# Altium schematic symbol library SSCI.SchLib: 7 symbols
Pins are listed as number, name and electrical type; pins without a type are passive.

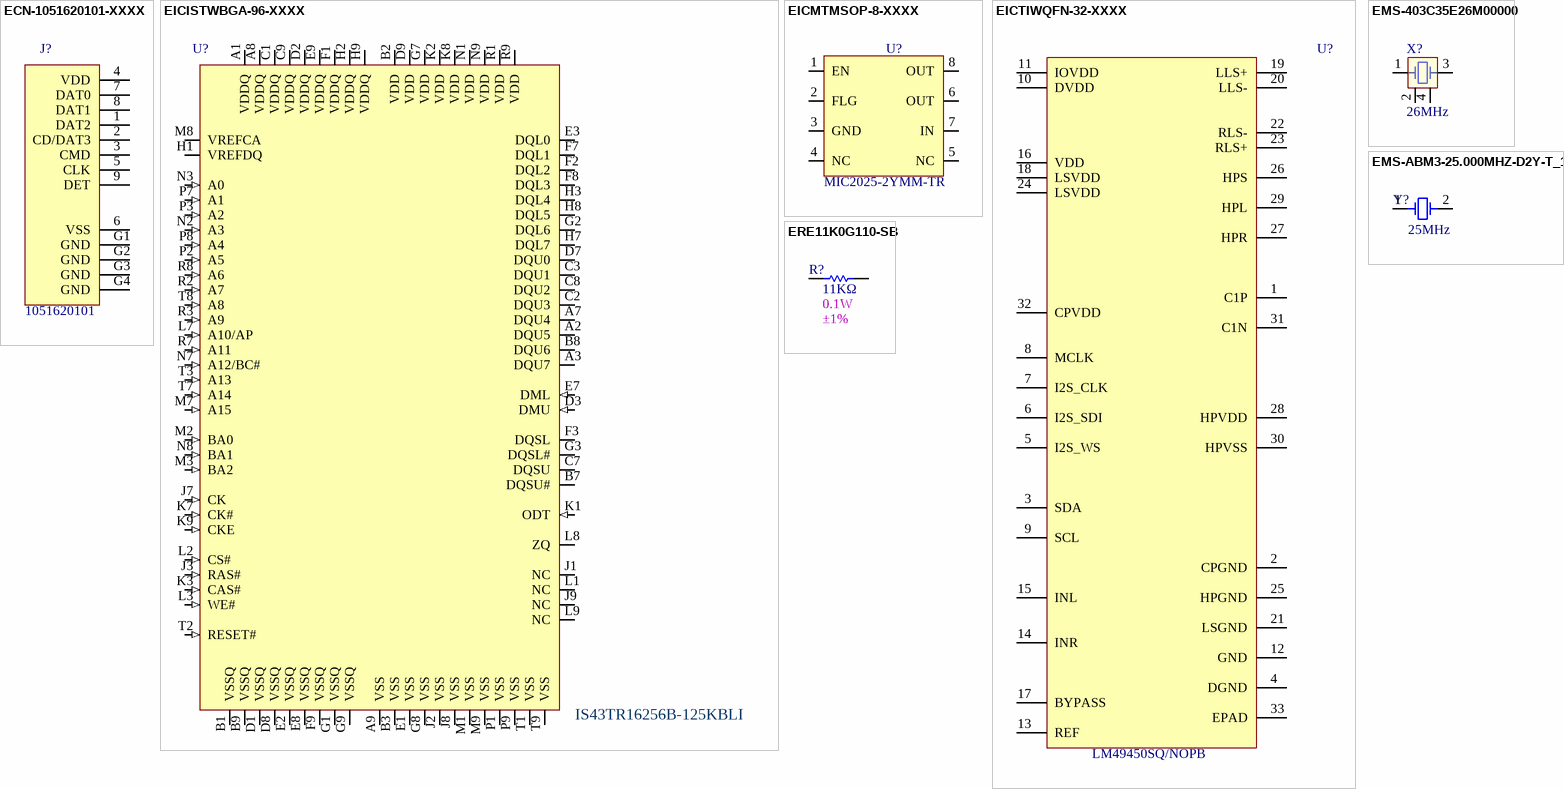
[diagram p0: symbols ECN-1051620101-XXXX to ERE11K0G110-SB]

## ECN-1051620101-XXXX
designator J?, comment value 1051620101  (hidden comment: 1.45H MICRO SD HEADER WITH D/C P)
Manufacturer: Molex; Internal Part Number: ECN-1051620101-XXXX; Vendor Part Number: WM12823CT-ND; 3rd Auxiliary Field: ROHS3 Compliant; Component Height (mm): 1.45mm; 4th Auxiliary Field: Push In, Pull Out; Vendor Name: Digi-Key; 1st Auxiliary Field: microSD™; 2nd Auxiliary Field: 9 (8 + 1) Positions; Part Type: 1.45H MICRO SD HEADER WITH D/C P; Manufacturer Part Number: 1051620101; Temp Co: *
footprint MOLEX_1051620101 (1.45H MICRO SD HEADER WITH D/C P)
pins: 1 DAT2, 2 CD/DAT3, 3 CMD, 4 VDD, 5 CLK, 6 VSS, 7 DAT0, 8 DAT1, 9 DET, G1 GND, G2 GND, G3 GND, G4 GND
1 alternate drawing of the same symbol

## EICISTWBGA-96-XXXX
designator U?, comment value IS43TR16256B-125KBLI  (hidden comment: IC DRAM 4GB DDR3 96TWBGA)
Internal Part Number: EICISTWBGA-96-XXXX; Manufacturer: ISSI, Integrated Silicon Solution Inc; Vendor Part Number: 706-1728-ND; 1st Auxiliary Field: 1.425V ~ 1.575V; 2nd Auxiliary Field: 4Gb (256M x 16); 3rd Auxiliary Field: ROHS3 Compliant; 4th Auxiliary Field: 800MHz; Component Height (mm): 1.2mm; Temp Co: -40°C ~ 95°C (TC); Vendor Name: Digi-Key; Part Type: IC DRAM 4GB DDR3 96TWBGA; Manufacturer Part Number: IS43TR16256B-125KBLI
footprint BGA96C80P9X16_900X1300X120 (BGA, 96-Leads, Body 9.00x13.00mmx1.20mm, Pitch 0.80mm)
pins: A1 VDDQ (power), A2 DQU5 (io), A3 DQU7 (io), A7 DQU4 (io), A8 VDDQ (power), A9 VSS (power), B1 VSSQ (power), B2 VDD (power), B3 VSS (power), B7 DQSU# (io), B8 DQU6 (io), B9 VSSQ (power), C1 VDDQ (power), C2 DQU3 (io), C3 DQU1 (io), C7 DQSU (io), C8 DQU2 (io), C9 VDDQ (power), D1 VSSQ (power), D2 VDDQ (power), D3 DMU (in), D7 DQU0 (io), D8 VSSQ (power), D9 VDD (power), E1 VSS (power), E2 VSSQ (power), E3 DQL0 (io), E7 DML (in), E8 VSSQ (power), E9 VDDQ (power), F1 VDDQ (power), F2 DQL2 (io), F3 DQSL (io), F7 DQL1 (io), F8 DQL3 (io), F9 VSSQ (power), G1 VSSQ (power), G2 DQL6 (io), G3 DQSL# (io), G7 VDD (power), G8 VSS (power), G9 VSSQ (power), H1 VREFDQ (power), H2 VDDQ (power), H3 DQL4 (io), H7 DQL7 (io), H8 DQL5 (io), H9 VDDQ (power), J1 NC, J2 VSS (power), J3 RAS# (in), J7 CK (in), J8 VSS (power), J9 NC, K1 ODT (in), K2 VDD (power), K3 CAS# (in), K7 CK# (in), K8 VDD (power), K9 CKE (in), L1 NC, L2 CS# (in), L3 WE# (in), L7 A10/AP (in), L8 ZQ (power), L9 NC, M1 VSS (power), M2 BA0 (in), M3 BA2 (in), M7 A15 (in), M8 VREFCA (power), M9 VSS (power), N1 VDD (power), N2 A3 (in), N3 A0 (in), N7 A12/BC# (in), N8 BA1 (in), N9 VDD (power), P1 VSS (power), P2 A5 (in), P3 A2 (in), P7 A1 (in), P8 A4 (in), P9 VSS (power), R1 VDD (power), R2 A7 (in), R3 A9 (in), R7 A11 (in), R8 A6 (in), R9 VDD (power), T1 VSS (power), T2 RESET# (in), T3 A13 (in), T7 A14 (in), T8 A8 (in), T9 VSS (power)

## EICMTMSOP-8-XXXX
designator U?, comment value MIC2025-2YMM-TR  (hidden comment: IC PWR SWITCH N-CHAN 1:1 8MSOP)
Manufacturer: Microchip Technology; Internal Part Number: EICMTMSOP-8-XXXX; Vendor Part Number: MIC2025-2YMM-CT-ND; 1st Auxiliary Field: 2.7V ~ 5.5V; 2nd Auxiliary Field: 500mA; 3rd Auxiliary Field: ROHS3 Compliant; Component Height (mm): 1.1mm; 4th Auxiliary Field: 90mOhm; Vendor Name: Digi-Key; Temp Co: -40°C ~ 85°C (TA); Part Type: IC PWR SWITCH N-CHAN 1:1 8MSOP; Manufacturer Part Number: MIC2025-2YMM-TR
footprint TSOP65P490X110-8N (TSOP, 8-Leads, Body 3.00x3.00mm, Pitch 0.65mm, IPC Medium Density)
pins: 1 EN, 2 FLG, 3 GND, 4 NC, 5 NC, 6 OUT, 7 IN, 8 OUT

## EICTIWQFN-32-XXXX
designator U?, comment value LM49450SQ/NOPB  (hidden comment: IC AMP CLASS D STER 2.5W 32WQFN)
Internal Part Number: EICTIWQFN-32-XXXX; Manufacturer: Texas Instruments; Vendor Part Number: LM49450SQ/NOPBCT-ND; 1st Auxiliary Field: 2.7V ~ 5.5V; 2nd Auxiliary Field: 2.5W x 2 @ 4Ohm; 3rd Auxiliary Field: ROHS3 Compliant; 4th Auxiliary Field: Class D; Component Height (mm): 0.80mm; Temp Co: -40°C ~ 85°C (TA); Vendor Name: Digi-Key; Manufacturer Part Number: LM49450SQ/NOPB; Part Type: IC AMP CLASS D STER 2.5W 32WQFN
footprint QFN50P500X500X80_HS-33N (QFN, 32-Leads, Body 5.00x5.00mm, Pitch 0.50mm, Thermal Pad 3.10x3.10mm, IPC Medium Density)
pins: 1 C1P, 2 CPGND, 3 SDA, 4 DGND, 5 I2S_WS, 6 I2S_SDI, 7 I2S_CLK, 8 MCLK, 9 SCL, 10 DVDD, 11 IOVDD, 12 GND, 13 REF, 14 INR, 15 INL, 16 VDD, 17 BYPASS, 18 LSVDD, 19 LLS+, 20 LLS-, 21 LSGND, 22 RLS-, 23 RLS+, 24 LSVDD, 25 HPGND, 26 HPS, 27 HPR, 28 HPVDD, 29 HPL, 30 HPVSS, 31 C1N, 32 CPVDD, 33 EPAD

## EMS-403C35E26M00000
designator X?, comment value 26MHz  (hidden comment: CRYSTAL 26.0000MHZ 20PF SMD)
Manufacturer: CTS-Frequency Controls; Manufacturer Part Number: 403C35E26M00000; Internal Part Number: EMS-403C35E26M00000; Vendor Part Number: CTX733CT-ND; 1st Auxiliary Field: ±30ppm; 3rd Auxiliary Field: ROHS3 Compliant; Component Height (mm): 0.75mm; Temp Co: -20°C ~ 70°C; 4th Auxiliary Field: 60 Ohms; Vendor Name: Digi-Key; 2nd Auxiliary Field: 20pF; Part Type: CRYSTAL 26.0000MHZ 20PF SMD
footprint XTAL_403C35E26M00000 (CRYSTAL 26.0000MHZ 20PF SMD)
pins: 1 XTAL_IN, 2 GND, 3 XTAL_IN, 4 GND

## EMS-ABM3-25.000MHZ-D2Y-T_1
designator Y?, comment value 25MHz  (hidden comment: CRYSTAL 25.0000MHZ 18PF SMD)
Manufacturer: Abracon LLC; Internal Part Number: EMS-ABM3-25.000MHZ-D2Y-T; Vendor Part Number: 535-10645-1-ND; Manufacturer Part Number: ABM3-25.000MHZ-D2Y-T; Component Height (mm): 1.3mm; 3rd Auxiliary Field: ROHS3 Compliant; 4th Auxiliary Field: 30 Ohms; Vendor Name: Digi-Key; Temp Co: -40°C ~ 85°C; 2nd Auxiliary Field: ±20ppm; Part Type: CRYSTAL 25.0000MHZ 18PF SMD; 1st Auxiliary Field: 18pF
footprint XTAL500X320X130N (CRYSTAL 25.0000MHZ 18PF SMD)
pins: 1 IN, 2 OUT

## ERE11K0G110-SB
designator R?, comment value 11KΩ  2nd Auxiliary Field: ±1%  1st Auxiliary Field: 0.1W  (hidden comment: RES SMD 11K OHM 1% 1/10W 0402)
Manufacturer: Panasonic Electronic Components; Internal Part Number: ERE11K0G110-SB; Vendor Part Number: P11.0KLCT-ND; Manufacturer Part Number: ERJ-2RKF1102X; Component Height (mm): 0.40mm; 3rd Auxiliary Field: ROHS3 Compliant; 4th Auxiliary Field: ±100ppm/°C; Vendor Name: Digi-Key; Temp Co: -55°C ~ 155°C; Part Type: RES SMD 11K OHM 1% 1/10W 0402
footprint SMDR0402
pins: 1, 2